# Altium schematic symbol library MPC-010-050.SchLib: 1 symbol
Pins are listed as number, name and electrical type; pins without a type are passive.

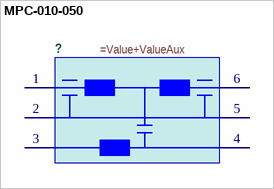
[diagram p0: symbol MPC-010-050]

## MPC-010-050
designator ?
=Description
pins: 1 24V, 2 M, 3, 4 GND, 5 M, 6 24V